# EAGLE library part RT424005 (library HyTechDevices)
TE/Schrack Double Pull Double Throw Relay 5VDC Datasheet <https://www.mouser.com/datasheet/2/418/NG_DS_RT2_1014-736201.pdf> Product Page <https://www.te.com/usa-en/product-5-1393243-9.html>
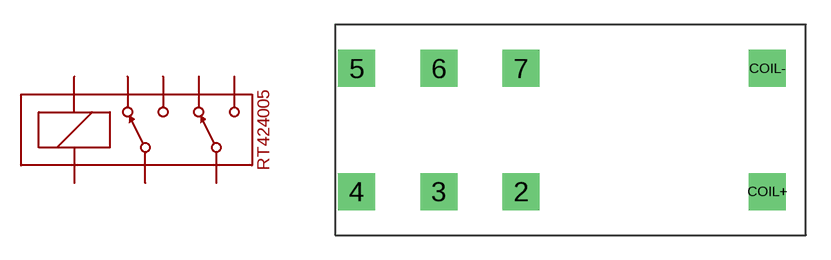
[diagram p101: symbol with the pads of RELAY_DPDT; footprint RELAY_DPDT]

Designator prefix -

## RT424005  [RELAY_DPDT]
2  2
3  3
4  4
5  5
6  6
7  7
COIL+  COIL+
COIL-  COIL-

## Footprint RELAY_DPDT (pad centres in mm)
drill 1.5 square: 2 10.008,0; 3 5.004,0; 4 0,0; 5 0,7.493; 6 5.004,7.493; 7 10.008,7.493; COIL+ 25.019,0; COIL- 25.019,7.493